# EAGLE library part SW-DIP3 (library chuong)
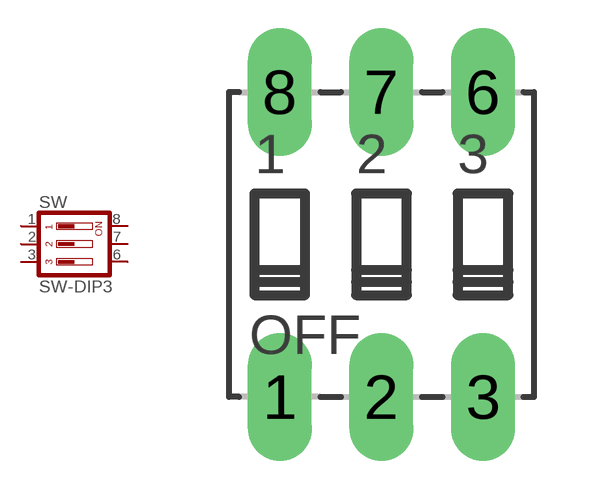
[diagram p56: symbol with the pads of SW-DIP3; footprint SW-DIP3]

Designator prefix SW

## SW-DIP3  [SW-DIP3]
1  1  pas
2  2  pas
3  3  pas
6  6  pas
7  7  pas
8  8  pas

## Footprint SW-DIP3 (pad centres in mm)
drill 0.813 pad 1.6 long: 1 -2.54,-3.81; 2 0,-3.81; 3 2.54,-3.81; 6 2.54,3.81; 7 0,3.81; 8 -2.54,3.81